# Altium schematic symbol library USB-C40-S-RA-BK-30-TR.SchLib: 2 symbols
Pins are listed as number, name and electrical type; pins without a type are passive.

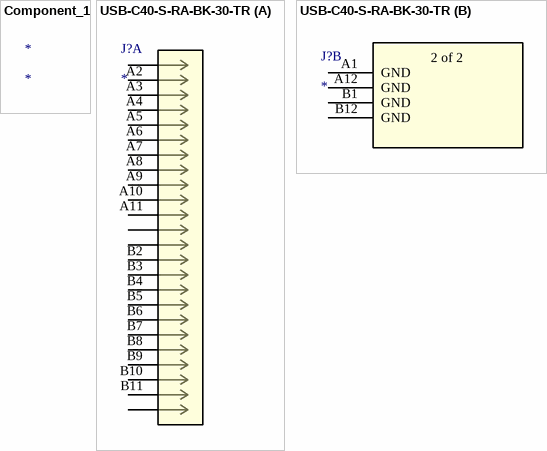
[diagram p0: symbols Component_1 to USB-C40-S-RA-BK-30-TR]

## Component_1
designator *

## USB-C40-S-RA-BK-30-TR
designator J?
No Description Available; Mfr_Name: ADAM TECHNOLOGIES INC; Digi-Key_Part_Number_3: 2057-USB-C40-S-RA-BK-30-DKR-ND; Digi-Key_Part_Number_2: 2057-USB-C40-S-RA-BK-30-CT-ND; Digi-Key_Part_Number_1: 2057-USB-C40-S-RA-BK-30-TR-ND; RefDes: RefDes; Type: Type
footprint CONN_USB-C40-S-RA-BK-30-TR_ADM
part A pins: ?1, ?2, ?3, ?4, A2 SSTXP1, A3 SSTXN1, A4 VBUS, A5 CC1, A6 DP1, A7 DN1, A8 SBU1, A9 VBUS, A10 SSRXN2, A11 SSRXP2, B2 SSTXP2, B3 SSTXN2, B4 VBUS, B5 CC2, B6 DP2, B7 DN2, B8 SBU2, B9 VBUS, B10 SSRXN1, B11 SSRXP1
part B pins: A1 GND, A12 GND, B1 GND, B12 GND
part B text: 2 of 2